# Altium schematic symbol library DTF15-12P_Half_A.SchLib: 1 symbol
Pins are listed as number, name and electrical type; pins without a type are passive.

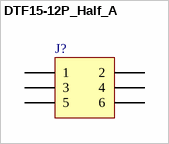
[diagram p0: symbol DTF15-12P_Half_A]

## DTF15-12P_Half_A
designator J?
Connector, 3-Pin, Dual row
signal-integrity model Connector
pins: 1, 2, 3, 4, 5, 6
1 alternate drawing of the same symbol